# Altium schematic symbol library STMicrocontroller 8.SchLib: 18 symbols
Pins are listed as number, name and electrical type; pins without a type are passive.

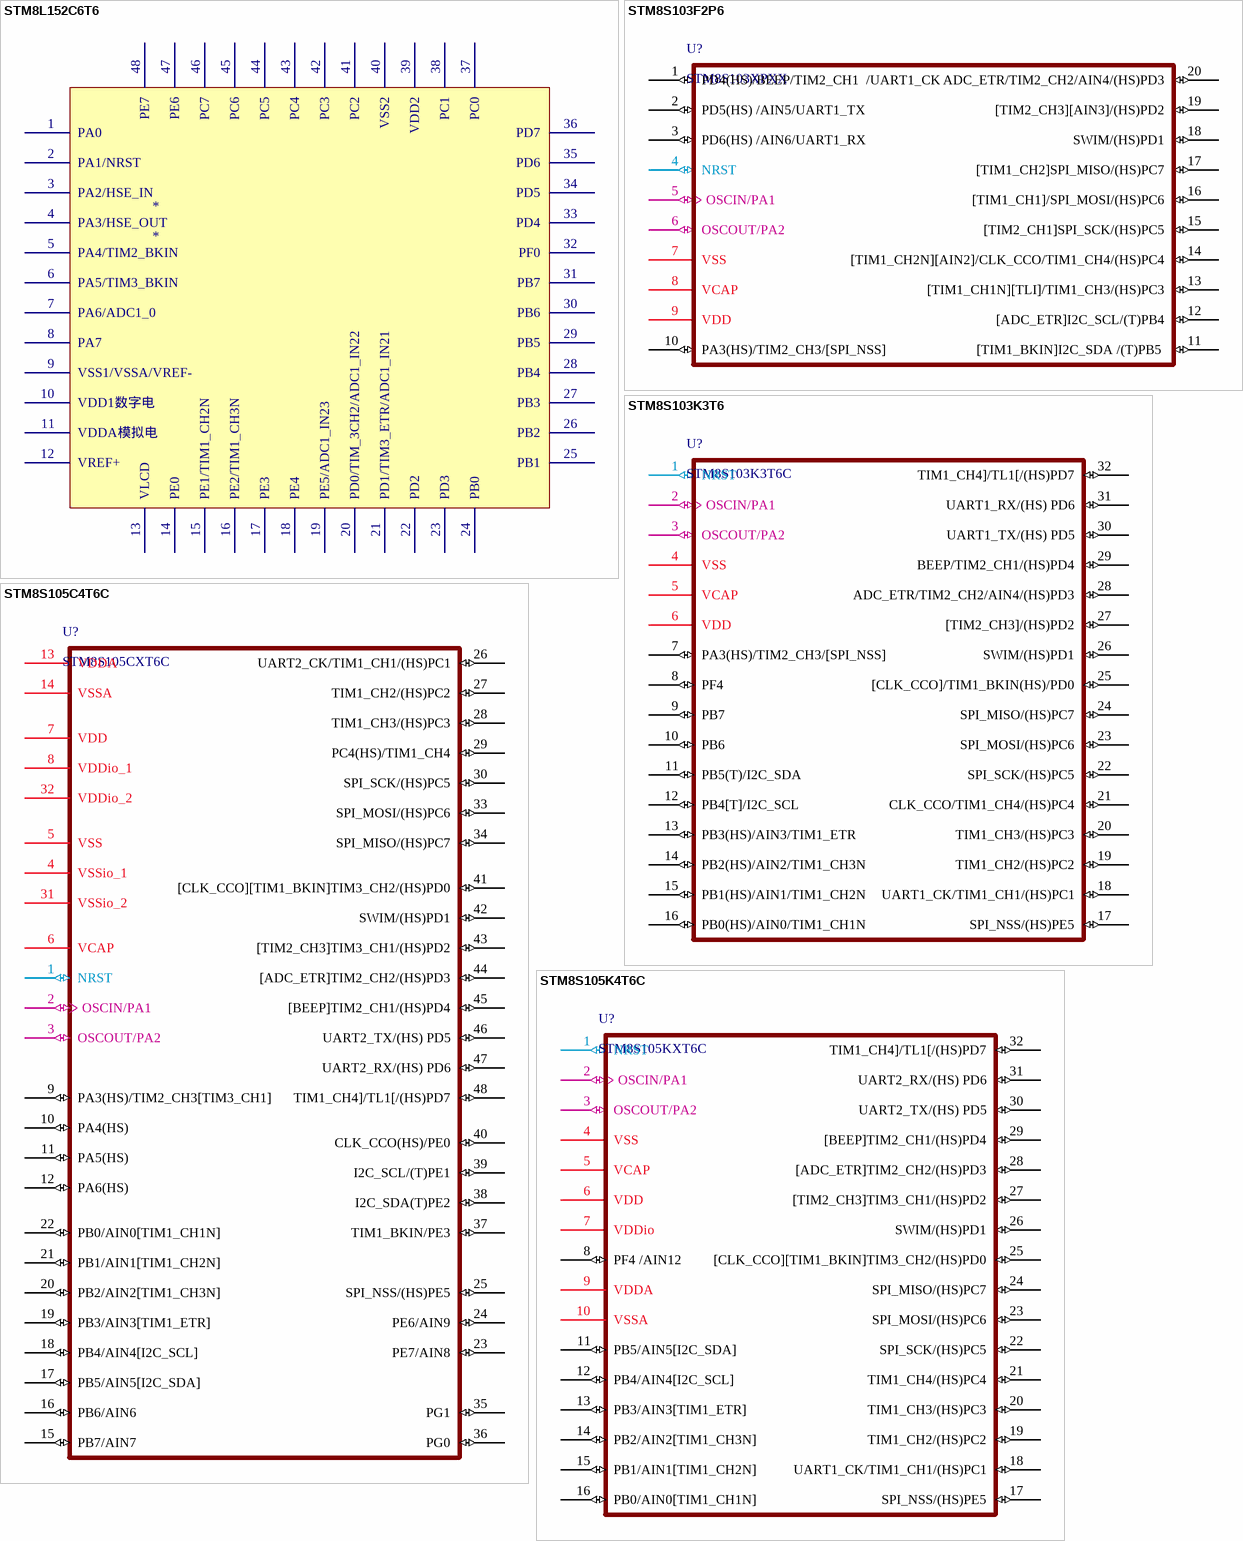
[diagram p0: symbols STM8L152C6T6 to STM8S105K4T6C]

## STM8L152C6T6
designator *
footprint LQFP48
pins: 1 PA0 (power), 2 PA1/NRST (power), 3 PA2/HSE_IN (power), 4 PA3/HSE_OUT (power), 5 PA4/TIM2_BKIN (power), 6 PA5/TIM3_BKIN (power), 7 PA6/ADC1_0 (power), 8 PA7 (power), 9 VSS1/VSSA/VREF- (power), 10 VDD1数字电 (power), 11 VDDA模拟电 (power), 12 VREF+ (power), 13 VLCD (power), 14 PE0 (power), 15 PE1/TIM1_CH2N (power), 16 PE2/TIM1_CH3N (power), 17 PE3 (power), 18 PE4 (power), 19 PE5/ADC1_IN23 (power), 20 PD0/TIM_3CH2/ADC1_IN22 (power), 21 PD1/TIM3_ETR/ADC1_IN21 (power), 22 PD2 (power), 23 PD3 (power), 24 PB0 (power), 25 PB1 (power), 26 PB2 (power), 27 PB3 (power), 28 PB4 (power), 29 PB5 (power), 30 PB6 (power), 31 PB7 (power), 32 PF0 (power), 33 PD4 (power), 34 PD5 (power), 35 PD6 (power), 36 PD7 (power), 37 PC0 (power), 38 PC1 (power), 39 VDD2 (power), 40 VSS2 (power), 41 PC2 (power), 42 PC3 (power), 43 PC4 (power), 44 PC5 (power), 45 PC6 (power), 46 PC7 (power), 47 PE6 (power), 48 PE7 (power)

## STM8S103F2P6
designator U?, comment STM8S103XPXX
ST 8-bit  Microcontroller
footprint TSSOP20 (20-pin, 4.40 mm body, 0.65 mm pitch)
pins: 1 PD4(HS)/BEEP/TIM2_CH1  /UART1_CK (io), 2 PD5(HS) /AIN5/UART1_TX (io), 3 PD6(HS) /AIN6/UART1_RX (io), 4 NRST (io), 5 OSCIN/PA1 (io), 6 OSCOUT/PA2 (io), 7 VSS (power), 8 VCAP (power), 9 VDD (power), 10 PA3(HS)/TIM2_CH3/[SPI_NSS]   (io), 11 [TIM1_BKIN]I2C_SDA /(T)PB5  (io), 12 [ADC_ETR]I2C_SCL/(T)PB4 (io), 13 [TIM1_CH1N][TLI]/TIM1_CH3/(HS)PC3 (io), 14 [TIM1_CH2N][AIN2]/CLK_CCO/TIM1_CH4/(HS)PC4 (io), 15 [TIM2_CH1]SPI_SCK/(HS)PC5 (io), 16 [TIM1_CH1]/SPI_MOSI/(HS)PC6 (io), 17 [TIM1_CH2]SPI_MISO/(HS)PC7 (io), 18 SWIM/(HS)PD1 (io), 19 [TIM2_CH3][AIN3]/(HS)PD2 (io), 20 ADC_ETR/TIM2_CH2/AIN4/(HS)PD3 (io)

## STM8S103K3T6
designator U?, comment STM8S103K3T6C
ST 8-bit  Microcontroller
footprint TQFP32 (Thin QFP, 32-Leads, Body 7x7mm, Pitch 0.8mm, IPC Low Density)
pins: 1 NRST (io), 2 OSCIN/PA1 (io), 3 OSCOUT/PA2 (io), 4 VSS (power), 5 VCAP (power), 6 VDD (power), 7 PA3(HS)/TIM2_CH3/[SPI_NSS]   (io), 8 PF4  (io), 9 PB7 (io), 10 PB6 (io), 11 PB5(T)/I2C_SDA (io), 12 PB4[T]/I2C_SCL (io), 13 PB3(HS)/AIN3/TIM1_ETR (io), 14 PB2(HS)/AIN2/TIM1_CH3N (io), 15 PB1(HS)/AIN1/TIM1_CH2N (io), 16 PB0(HS)/AIN0/TIM1_CH1N (io), 17 SPI_NSS/(HS)PE5 (io), 18 UART1_CK/TIM1_CH1/(HS)PC1 (io), 19 TIM1_CH2/(HS)PC2 (io), 20 TIM1_CH3/(HS)PC3 (io), 21 CLK_CCO/TIM1_CH4/(HS)PC4 (io), 22 SPI_SCK/(HS)PC5 (io), 23 SPI_MOSI/(HS)PC6 (io), 24 SPI_MISO/(HS)PC7 (io), 25 [CLK_CCO]/TIM1_BKIN(HS)/PD0 (io), 26 SWIM/(HS)PD1 (io), 27 [TIM2_CH3]/(HS)PD2 (io), 28 ADC_ETR/TIM2_CH2/AIN4/(HS)PD3 (io), 29 BEEP/TIM2_CH1/(HS)PD4 (io), 30 UART1_TX/(HS) PD5 (io), 31 UART1_RX/(HS) PD6 (io), 32 TIM1_CH4]/TL1[/(HS)PD7 (io)

## STM8S105C4T6C
designator U?, comment STM8S105CXT6C
ST 8-bit  Microcontroller
footprint LQFP48
pins: 1 NRST (io), 2 OSCIN/PA1 (io), 3 OSCOUT/PA2 (io), 4 VSSio_1 (power), 5 VSS (power), 6 VCAP (power), 7 VDD (power), 8 VDDio_1 (power), 9 PA3(HS)/TIM2_CH3[TIM3_CH1] (io), 10 PA4(HS) (io), 11 PA5(HS) (io), 12 PA6(HS) (io), 13 VDDA (power), 14 VSSA (power), 15 PB7/AIN7 (io), 16 PB6/AIN6 (io), 17 PB5/AIN5[I2C_SDA] (io), 18 PB4/AIN4[I2C_SCL] (io), 19 PB3/AIN3[TIM1_ETR] (io), 20 PB2/AIN2[TIM1_CH3N] (io), 21 PB1/AIN1[TIM1_CH2N] (io), 22 PB0/AIN0[TIM1_CH1N] (io), 23 PE7/AIN8 (io), 24 PE6/AIN9 (io), 25 SPI_NSS/(HS)PE5 (io), 26 UART2_CK/TIM1_CH1/(HS)PC1 (io), 27 TIM1_CH2/(HS)PC2 (io), 28 TIM1_CH3/(HS)PC3 (io), 29 PC4(HS)/TIM1_CH4 (io), 30 SPI_SCK/(HS)PC5 (io), 31 VSSio_2 (power), 32 VDDio_2 (power), 33 SPI_MOSI/(HS)PC6 (io), 34 SPI_MISO/(HS)PC7 (io), 35 PG1 (io), 36 PG0 (io), 37 TIM1_BKIN/PE3 (io), 38 I2C_SDA(T)PE2 (io), 39 I2C_SCL/(T)PE1 (io), 40 CLK_CCO(HS)/PE0 (io), 41 [CLK_CCO][TIM1_BKIN]TIM3_CH2/(HS)PD0 (io), 42 SWIM/(HS)PD1 (io), 43 [TIM2_CH3]TIM3_CH1/(HS)PD2 (io), 44 [ADC_ETR]TIM2_CH2/(HS)PD3 (io), 45 [BEEP]TIM2_CH1/(HS)PD4 (io), 46 UART2_TX/(HS) PD5 (io), 47 UART2_RX/(HS) PD6 (io), 48 TIM1_CH4]/TL1[/(HS)PD7 (io)
1 alternate drawing of the same symbol

## STM8S105K4T6C
designator U?, comment STM8S105KXT6C
ST 8-bit  Microcontroller
footprint TQFP32 (Thin QFP, 32-Leads, Body 7x7mm, Pitch 0.8mm, IPC Low Density)
pins: 1 NRST (io), 2 OSCIN/PA1 (io), 3 OSCOUT/PA2 (io), 4 VSS (power), 5 VCAP (power), 6 VDD (power), 7 VDDio (power), 8 PF4 /AIN12 (io), 9 VDDA (power), 10 VSSA (power), 11 PB5/AIN5[I2C_SDA] (io), 12 PB4/AIN4[I2C_SCL] (io), 13 PB3/AIN3[TIM1_ETR] (io), 14 PB2/AIN2[TIM1_CH3N] (io), 15 PB1/AIN1[TIM1_CH2N] (io), 16 PB0/AIN0[TIM1_CH1N] (io), 17 SPI_NSS/(HS)PE5 (io), 18 UART1_CK/TIM1_CH1/(HS)PC1 (io), 19 TIM1_CH2/(HS)PC2 (io), 20 TIM1_CH3/(HS)PC3 (io), 21 TIM1_CH4/(HS)PC4 (io), 22 SPI_SCK/(HS)PC5 (io), 23 SPI_MOSI/(HS)PC6 (io), 24 SPI_MISO/(HS)PC7 (io), 25 [CLK_CCO][TIM1_BKIN]TIM3_CH2/(HS)PD0 (io), 26 SWIM/(HS)PD1 (io), 27 [TIM2_CH3]TIM3_CH1/(HS)PD2 (io), 28 [ADC_ETR]TIM2_CH2/(HS)PD3 (io), 29 [BEEP]TIM2_CH1/(HS)PD4 (io), 30 UART2_TX/(HS) PD5 (io), 31 UART2_RX/(HS) PD6 (io), 32 TIM1_CH4]/TL1[/(HS)PD7 (io)

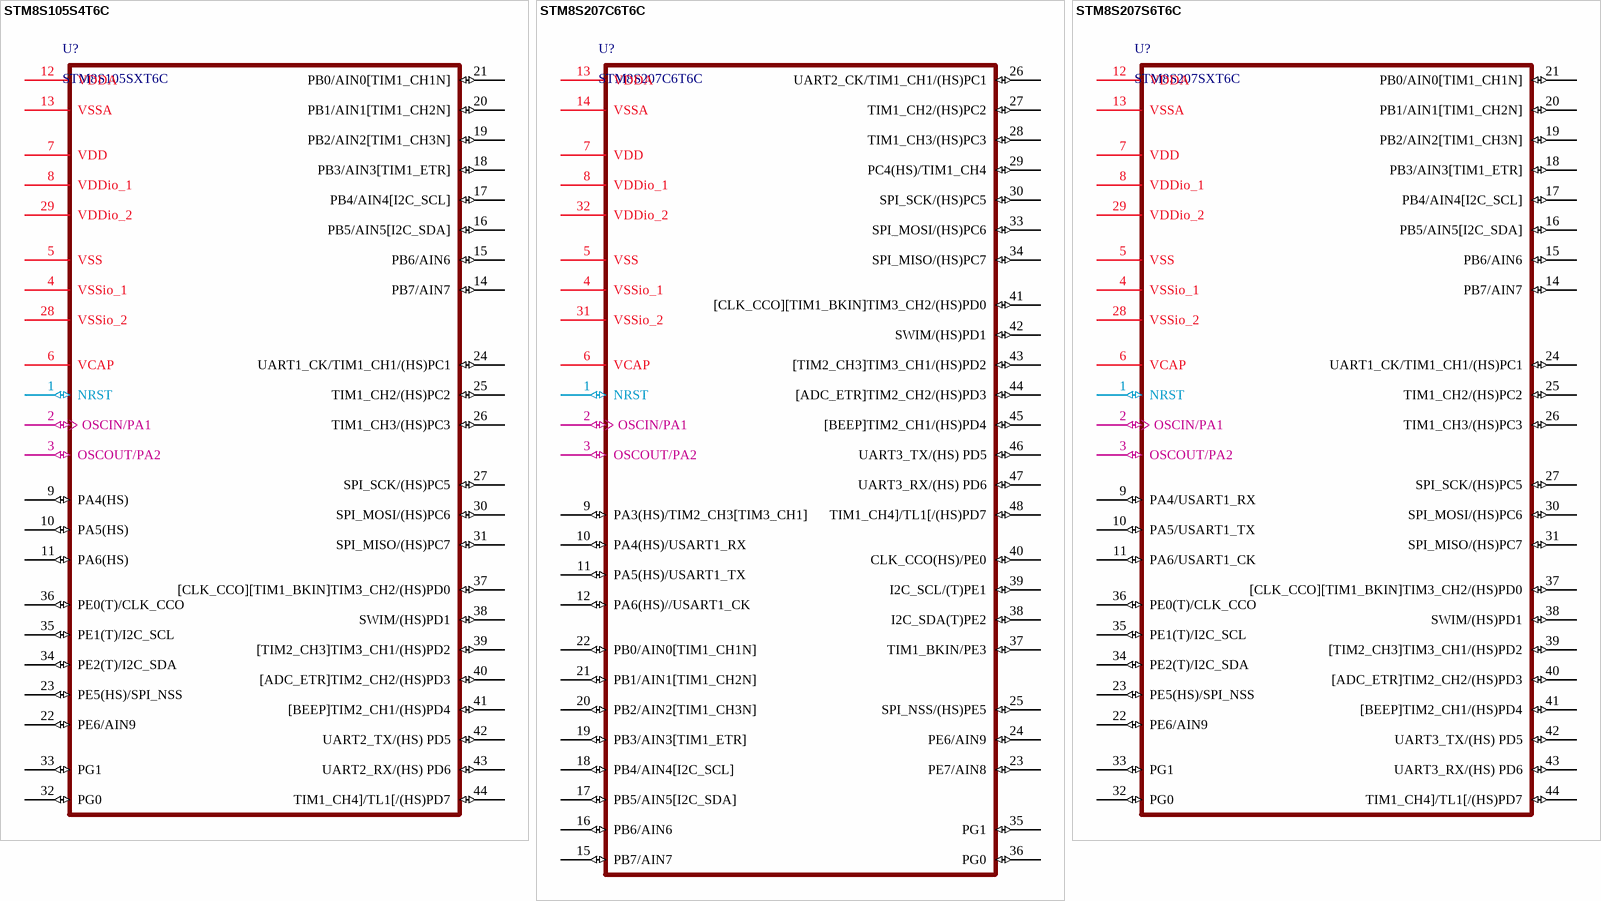
[diagram p1: symbols STM8S105S4T6C to STM8S207S6T6C]

## STM8S105S4T6C
designator U?, comment STM8S105SXT6C
ST 8-bit  Microcontroller
footprint TQFP44 (Thin QFP, 44-Leads, Body 10x10mm, Pitch 0.8mm, IPC Low Density)
pins: 1 NRST (io), 2 OSCIN/PA1 (io), 3 OSCOUT/PA2 (io), 4 VSSio_1 (power), 5 VSS (power), 6 VCAP (power), 7 VDD (power), 8 VDDio_1 (power), 9 PA4(HS) (io), 10 PA5(HS) (io), 11 PA6(HS) (io), 12 VDDA (power), 13 VSSA (power), 14 PB7/AIN7 (io), 15 PB6/AIN6 (io), 16 PB5/AIN5[I2C_SDA] (io), 17 PB4/AIN4[I2C_SCL] (io), 18 PB3/AIN3[TIM1_ETR] (io), 19 PB2/AIN2[TIM1_CH3N] (io), 20 PB1/AIN1[TIM1_CH2N] (io), 21 PB0/AIN0[TIM1_CH1N] (io), 22 PE6/AIN9 (io), 23 PE5(HS)/SPI_NSS (io), 24 UART1_CK/TIM1_CH1/(HS)PC1 (io), 25 TIM1_CH2/(HS)PC2 (io), 26 TIM1_CH3/(HS)PC3 (io), 27 SPI_SCK/(HS)PC5 (io), 28 VSSio_2 (power), 29 VDDio_2 (power), 30 SPI_MOSI/(HS)PC6 (io), 31 SPI_MISO/(HS)PC7 (io), 32 PG0 (io), 33 PG1 (io), 34 PE2(T)/I2C_SDA (io), 35 PE1(T)/I2C_SCL (io), 36 PE0(T)/CLK_CCO (io), 37 [CLK_CCO][TIM1_BKIN]TIM3_CH2/(HS)PD0 (io), 38 SWIM/(HS)PD1 (io), 39 [TIM2_CH3]TIM3_CH1/(HS)PD2 (io), 40 [ADC_ETR]TIM2_CH2/(HS)PD3 (io), 41 [BEEP]TIM2_CH1/(HS)PD4 (io), 42 UART2_TX/(HS) PD5 (io), 43 UART2_RX/(HS) PD6 (io), 44 TIM1_CH4]/TL1[/(HS)PD7 (io)

## STM8S207C6T6C
designator U?
ST 8-bit  Microcontroller
footprint LQFP48
pins: 1 NRST (io), 2 OSCIN/PA1 (io), 3 OSCOUT/PA2 (io), 4 VSSio_1 (power), 5 VSS (power), 6 VCAP (power), 7 VDD (power), 8 VDDio_1 (power), 9 PA3(HS)/TIM2_CH3[TIM3_CH1] (io), 10 PA4(HS)/USART1_RX (io), 11 PA5(HS)/USART1_TX (io), 12 PA6(HS)//USART1_CK (io), 13 VDDA (power), 14 VSSA (power), 15 PB7/AIN7 (io), 16 PB6/AIN6 (io), 17 PB5/AIN5[I2C_SDA] (io), 18 PB4/AIN4[I2C_SCL] (io), 19 PB3/AIN3[TIM1_ETR] (io), 20 PB2/AIN2[TIM1_CH3N] (io), 21 PB1/AIN1[TIM1_CH2N] (io), 22 PB0/AIN0[TIM1_CH1N] (io), 23 PE7/AIN8 (io), 24 PE6/AIN9 (io), 25 SPI_NSS/(HS)PE5 (io), 26 UART2_CK/TIM1_CH1/(HS)PC1 (io), 27 TIM1_CH2/(HS)PC2 (io), 28 TIM1_CH3/(HS)PC3 (io), 29 PC4(HS)/TIM1_CH4 (io), 30 SPI_SCK/(HS)PC5 (io), 31 VSSio_2 (power), 32 VDDio_2 (power), 33 SPI_MOSI/(HS)PC6 (io), 34 SPI_MISO/(HS)PC7 (io), 35 PG1 (io), 36 PG0 (io), 37 TIM1_BKIN/PE3 (io), 38 I2C_SDA(T)PE2 (io), 39 I2C_SCL/(T)PE1 (io), 40 CLK_CCO(HS)/PE0 (io), 41 [CLK_CCO][TIM1_BKIN]TIM3_CH2/(HS)PD0 (io), 42 SWIM/(HS)PD1 (io), 43 [TIM2_CH3]TIM3_CH1/(HS)PD2 (io), 44 [ADC_ETR]TIM2_CH2/(HS)PD3 (io), 45 [BEEP]TIM2_CH1/(HS)PD4 (io), 46 UART3_TX/(HS) PD5 (io), 47 UART3_RX/(HS) PD6 (io), 48 TIM1_CH4]/TL1[/(HS)PD7 (io)

## STM8S207S6T6C
designator U?, comment STM8S207SXT6C
ST 8-bit  Microcontroller
footprint TQFP44 (Thin QFP, 44-Leads, Body 10x10mm, Pitch 0.8mm, IPC Low Density)
pins: 1 NRST (io), 2 OSCIN/PA1 (io), 3 OSCOUT/PA2 (io), 4 VSSio_1 (power), 5 VSS (power), 6 VCAP (power), 7 VDD (power), 8 VDDio_1 (power), 9 PA4/USART1_RX (io), 10 PA5/USART1_TX (io), 11 PA6/USART1_CK (io), 12 VDDA (power), 13 VSSA (power), 14 PB7/AIN7 (io), 15 PB6/AIN6 (io), 16 PB5/AIN5[I2C_SDA] (io), 17 PB4/AIN4[I2C_SCL] (io), 18 PB3/AIN3[TIM1_ETR] (io), 19 PB2/AIN2[TIM1_CH3N] (io), 20 PB1/AIN1[TIM1_CH2N] (io), 21 PB0/AIN0[TIM1_CH1N] (io), 22 PE6/AIN9 (io), 23 PE5(HS)/SPI_NSS (io), 24 UART1_CK/TIM1_CH1/(HS)PC1 (io), 25 TIM1_CH2/(HS)PC2 (io), 26 TIM1_CH3/(HS)PC3 (io), 27 SPI_SCK/(HS)PC5 (io), 28 VSSio_2 (power), 29 VDDio_2 (power), 30 SPI_MOSI/(HS)PC6 (io), 31 SPI_MISO/(HS)PC7 (io), 32 PG0 (io), 33 PG1 (io), 34 PE2(T)/I2C_SDA (io), 35 PE1(T)/I2C_SCL (io), 36 PE0(T)/CLK_CCO (io), 37 [CLK_CCO][TIM1_BKIN]TIM3_CH2/(HS)PD0 (io), 38 SWIM/(HS)PD1 (io), 39 [TIM2_CH3]TIM3_CH1/(HS)PD2 (io), 40 [ADC_ETR]TIM2_CH2/(HS)PD3 (io), 41 [BEEP]TIM2_CH1/(HS)PD4 (io), 42 UART3_TX/(HS) PD5 (io), 43 UART3_RX/(HS) PD6 (io), 44 TIM1_CH4]/TL1[/(HS)PD7 (io)

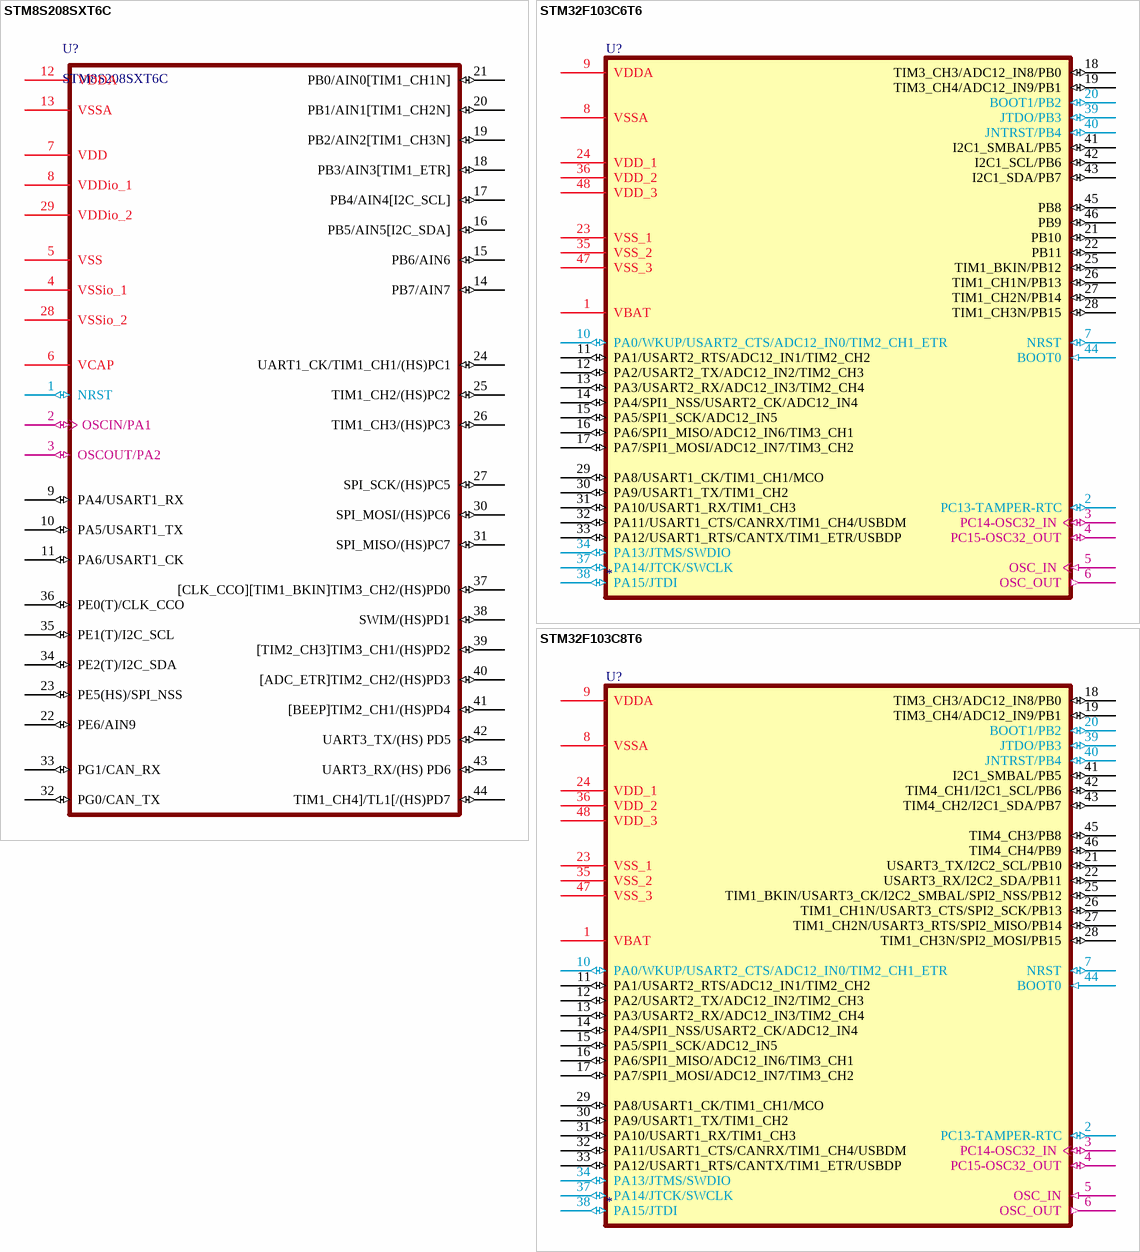
[diagram p2: symbols STM8S208SXT6C to STM32F103C8T6]

## STM8S208SXT6C
designator U?
ST 8-bit  Microcontroller
footprint TQFP44 (Thin QFP, 44-Leads, Body 10x10mm, Pitch 0.8mm, IPC Low Density)
pins: 1 NRST (io), 2 OSCIN/PA1 (io), 3 OSCOUT/PA2 (io), 4 VSSio_1 (power), 5 VSS (power), 6 VCAP (power), 7 VDD (power), 8 VDDio_1 (power), 9 PA4/USART1_RX (io), 10 PA5/USART1_TX (io), 11 PA6/USART1_CK (io), 12 VDDA (power), 13 VSSA (power), 14 PB7/AIN7 (io), 15 PB6/AIN6 (io), 16 PB5/AIN5[I2C_SDA] (io), 17 PB4/AIN4[I2C_SCL] (io), 18 PB3/AIN3[TIM1_ETR] (io), 19 PB2/AIN2[TIM1_CH3N] (io), 20 PB1/AIN1[TIM1_CH2N] (io), 21 PB0/AIN0[TIM1_CH1N] (io), 22 PE6/AIN9 (io), 23 PE5(HS)/SPI_NSS (io), 24 UART1_CK/TIM1_CH1/(HS)PC1 (io), 25 TIM1_CH2/(HS)PC2 (io), 26 TIM1_CH3/(HS)PC3 (io), 27 SPI_SCK/(HS)PC5 (io), 28 VSSio_2 (power), 29 VDDio_2 (power), 30 SPI_MOSI/(HS)PC6 (io), 31 SPI_MISO/(HS)PC7 (io), 32 PG0/CAN_TX (io), 33 PG1/CAN_RX (io), 34 PE2(T)/I2C_SDA (io), 35 PE1(T)/I2C_SCL (io), 36 PE0(T)/CLK_CCO (io), 37 [CLK_CCO][TIM1_BKIN]TIM3_CH2/(HS)PD0 (io), 38 SWIM/(HS)PD1 (io), 39 [TIM2_CH3]TIM3_CH1/(HS)PD2 (io), 40 [ADC_ETR]TIM2_CH2/(HS)PD3 (io), 41 [BEEP]TIM2_CH1/(HS)PD4 (io), 42 UART3_TX/(HS) PD5 (io), 43 UART3_RX/(HS) PD6 (io), 44 TIM1_CH4]/TL1[/(HS)PD7 (io)

## STM32F103C6T6
designator U?
STM32 ARM-based 32-bit MCU with 32 Kbytes Flash, 48-pin LQFP, Industrial Temperature; Published: *; DatasheetVersion: *; PackageVersion: *; PackageReference: *; Publisher: *; PackageDescription: *; ComponentLink1Description: *; ComponentLink1URL: *; ComponentLink2Description: *; ComponentLink2URL: *
footprint LQFP48
pins: 1 VBAT (power), 2 PC13-TAMPER-RTC (io), 3 PC14-OSC32_IN (io), 4 PC15-OSC32_OUT (io), 5 OSC_IN (in), 6 OSC_OUT (out), 7 NRST (io), 8 VSSA (power), 9 VDDA (power), 10 PA0/WKUP/USART2_CTS/ADC12_IN0/TIM2_CH1_ETR (io), 11 PA1/USART2_RTS/ADC12_IN1/TIM2_CH2 (io), 12 PA2/USART2_TX/ADC12_IN2/TIM2_CH3 (io), 13 PA3/USART2_RX/ADC12_IN3/TIM2_CH4 (io), 14 PA4/SPI1_NSS/USART2_CK/ADC12_IN4 (io), 15 PA5/SPI1_SCK/ADC12_IN5 (io), 16 PA6/SPI1_MISO/ADC12_IN6/TIM3_CH1 (io), 17 PA7/SPI1_MOSI/ADC12_IN7/TIM3_CH2 (io), 18 TIM3_CH3/ADC12_IN8/PB0 (io), 19 TIM3_CH4/ADC12_IN9/PB1 (io), 20 BOOT1/PB2 (io), 21 PB10 (io), 22 PB11 (io), 23 VSS_1 (power), 24 VDD_1 (power), 25 TIM1_BKIN/PB12 (io), 26 TIM1_CH1N/PB13 (io), 27 TIM1_CH2N/PB14 (io), 28 TIM1_CH3N/PB15 (io), 29 PA8/USART1_CK/TIM1_CH1/MCO (io), 30 PA9/USART1_TX/TIM1_CH2 (io), 31 PA10/USART1_RX/TIM1_CH3 (io), 32 PA11/USART1_CTS/CANRX/TIM1_CH4/USBDM (io), 33 PA12/USART1_RTS/CANTX/TIM1_ETR/USBDP (io), 34 PA13/JTMS/SWDIO (io), 35 VSS_2 (power), 36 VDD_2 (power), 37 PA14/JTCK/SWCLK (io), 38 PA15/JTDI (io), 39 JTDO/PB3 (io), 40 JNTRST/PB4 (io), 41 I2C1_SMBAL/PB5 (io), 42 I2C1_SCL/PB6 (io), 43 I2C1_SDA/PB7 (io), 44 BOOT0 (in), 45 PB8 (io), 46 PB9 (io), 47 VSS_3 (power), 48 VDD_3 (power)
2 alternate drawings of the same symbol

## STM32F103C8T6
designator U?
STM32 ARM-based 32-bit MCU with 64 Kbytes Flash, 48-pin LQFP, Industrial Temperature; Published: *; DatasheetVersion: *; PackageVersion: *; PackageReference: *; Publisher: *; PackageDescription: *; ComponentLink1Description: *; ComponentLink1URL: *; ComponentLink2Description: *; ComponentLink2URL: *
footprint LQFP48
pins: 1 VBAT (power), 2 PC13-TAMPER-RTC (io), 3 PC14-OSC32_IN (io), 4 PC15-OSC32_OUT (io), 5 OSC_IN (in), 6 OSC_OUT (out), 7 NRST (io), 8 VSSA (power), 9 VDDA (power), 10 PA0/WKUP/USART2_CTS/ADC12_IN0/TIM2_CH1_ETR (io), 11 PA1/USART2_RTS/ADC12_IN1/TIM2_CH2 (io), 12 PA2/USART2_TX/ADC12_IN2/TIM2_CH3 (io), 13 PA3/USART2_RX/ADC12_IN3/TIM2_CH4 (io), 14 PA4/SPI1_NSS/USART2_CK/ADC12_IN4 (io), 15 PA5/SPI1_SCK/ADC12_IN5 (io), 16 PA6/SPI1_MISO/ADC12_IN6/TIM3_CH1 (io), 17 PA7/SPI1_MOSI/ADC12_IN7/TIM3_CH2 (io), 18 TIM3_CH3/ADC12_IN8/PB0 (io), 19 TIM3_CH4/ADC12_IN9/PB1 (io), 20 BOOT1/PB2 (io), 21 USART3_TX/I2C2_SCL/PB10 (io), 22 USART3_RX/I2C2_SDA/PB11 (io), 23 VSS_1 (power), 24 VDD_1 (power), 25 TIM1_BKIN/USART3_CK/I2C2_SMBAL/SPI2_NSS/PB12 (io), 26 TIM1_CH1N/USART3_CTS/SPI2_SCK/PB13 (io), 27 TIM1_CH2N/USART3_RTS/SPI2_MISO/PB14 (io), 28 TIM1_CH3N/SPI2_MOSI/PB15 (io), 29 PA8/USART1_CK/TIM1_CH1/MCO (io), 30 PA9/USART1_TX/TIM1_CH2 (io), 31 PA10/USART1_RX/TIM1_CH3 (io), 32 PA11/USART1_CTS/CANRX/TIM1_CH4/USBDM (io), 33 PA12/USART1_RTS/CANTX/TIM1_ETR/USBDP (io), 34 PA13/JTMS/SWDIO (io), 35 VSS_2 (power), 36 VDD_2 (power), 37 PA14/JTCK/SWCLK (io), 38 PA15/JTDI (io), 39 JTDO/PB3 (io), 40 JNTRST/PB4 (io), 41 I2C1_SMBAL/PB5 (io), 42 TIM4_CH1/I2C1_SCL/PB6 (io), 43 TIM4_CH2/I2C1_SDA/PB7 (io), 44 BOOT0 (in), 45 TIM4_CH3/PB8 (io), 46 TIM4_CH4/PB9 (io), 47 VSS_3 (power), 48 VDD_3 (power)
2 alternate drawings of the same symbol

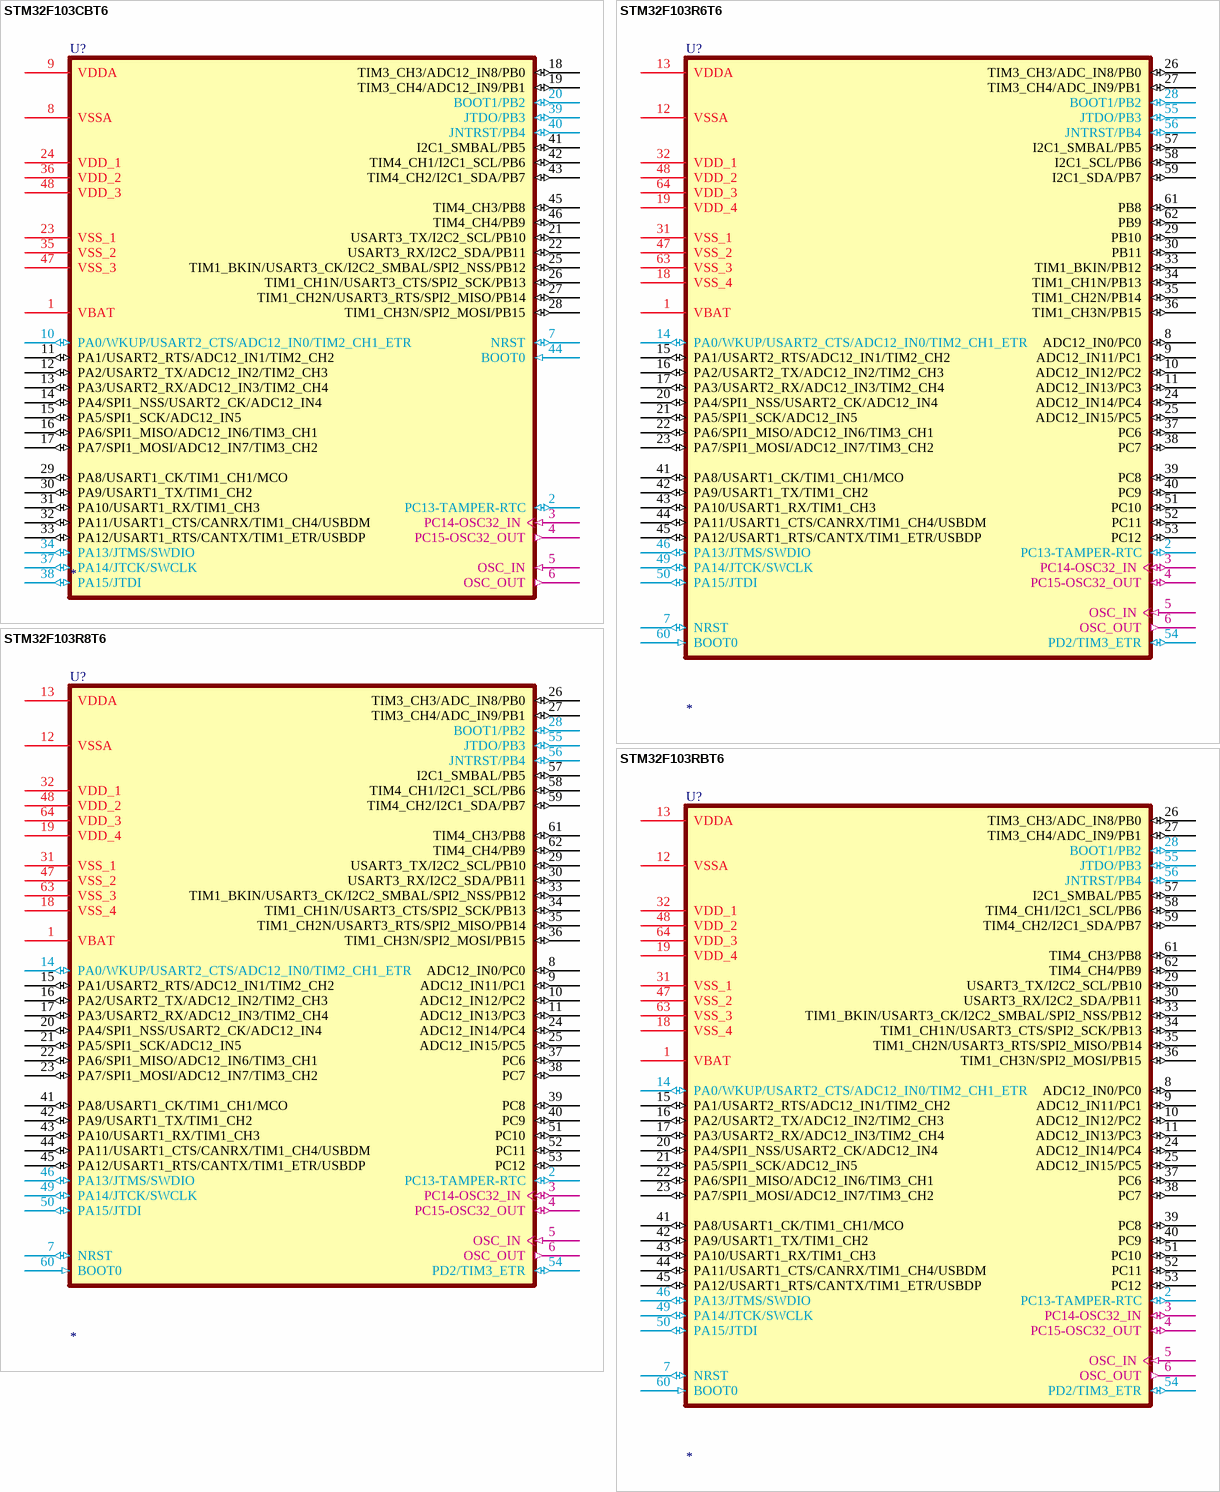
[diagram p3: symbols STM32F103CBT6 to STM32F103RBT6]

## STM32F103CBT6
designator U?
STM32 ARM-based 32-bit MCU with 128 Kbytes Flash, 48-pin LQFP, Industrial Temperature; Published: *; DatasheetVersion: *; PackageVersion: *; PackageReference: *; Publisher: *; PackageDescription: *; ComponentLink1Description: *; ComponentLink1URL: *; ComponentLink2Description: *; ComponentLink2URL: *
footprint LQFP48
pins: 1 VBAT (power), 2 PC13-TAMPER-RTC (io), 3 PC14-OSC32_IN (in), 4 PC15-OSC32_OUT (out), 5 OSC_IN (in), 6 OSC_OUT (out), 7 NRST (io), 8 VSSA (power), 9 VDDA (power), 10 PA0/WKUP/USART2_CTS/ADC12_IN0/TIM2_CH1_ETR (io), 11 PA1/USART2_RTS/ADC12_IN1/TIM2_CH2 (io), 12 PA2/USART2_TX/ADC12_IN2/TIM2_CH3 (io), 13 PA3/USART2_RX/ADC12_IN3/TIM2_CH4 (io), 14 PA4/SPI1_NSS/USART2_CK/ADC12_IN4 (io), 15 PA5/SPI1_SCK/ADC12_IN5 (io), 16 PA6/SPI1_MISO/ADC12_IN6/TIM3_CH1 (io), 17 PA7/SPI1_MOSI/ADC12_IN7/TIM3_CH2 (io), 18 TIM3_CH3/ADC12_IN8/PB0 (io), 19 TIM3_CH4/ADC12_IN9/PB1 (io), 20 BOOT1/PB2 (io), 21 USART3_TX/I2C2_SCL/PB10 (io), 22 USART3_RX/I2C2_SDA/PB11 (io), 23 VSS_1 (power), 24 VDD_1 (power), 25 TIM1_BKIN/USART3_CK/I2C2_SMBAL/SPI2_NSS/PB12 (io), 26 TIM1_CH1N/USART3_CTS/SPI2_SCK/PB13 (io), 27 TIM1_CH2N/USART3_RTS/SPI2_MISO/PB14 (io), 28 TIM1_CH3N/SPI2_MOSI/PB15 (io), 29 PA8/USART1_CK/TIM1_CH1/MCO (io), 30 PA9/USART1_TX/TIM1_CH2 (io), 31 PA10/USART1_RX/TIM1_CH3 (io), 32 PA11/USART1_CTS/CANRX/TIM1_CH4/USBDM (io), 33 PA12/USART1_RTS/CANTX/TIM1_ETR/USBDP (io), 34 PA13/JTMS/SWDIO (io), 35 VSS_2 (power), 36 VDD_2 (power), 37 PA14/JTCK/SWCLK (io), 38 PA15/JTDI (io), 39 JTDO/PB3 (io), 40 JNTRST/PB4 (io), 41 I2C1_SMBAL/PB5 (io), 42 TIM4_CH1/I2C1_SCL/PB6 (io), 43 TIM4_CH2/I2C1_SDA/PB7 (io), 44 BOOT0 (in), 45 TIM4_CH3/PB8 (io), 46 TIM4_CH4/PB9 (io), 47 VSS_3 (power), 48 VDD_3 (power)
2 alternate drawings of the same symbol

## STM32F103R6T6
designator U?
STM32 ARM-based 32-bit MCU with 32 Kbytes Flash, 64-pin LQFP, Industrial Temperature; Published: *; DatasheetVersion: *; PackageVersion: *; PackageReference: *; Publisher: *; PackageDescription: *; ComponentLink1Description: *; ComponentLink1URL: *; ComponentLink2Description: *; ComponentLink2URL: *
footprint LQFP64
pins: 1 VBAT (power), 2 PC13-TAMPER-RTC (io), 3 PC14-OSC32_IN (io), 4 PC15-OSC32_OUT (io), 5 OSC_IN (in), 6 OSC_OUT (out), 7 NRST (io), 8 ADC12_IN0/PC0 (io), 9 ADC12_IN11/PC1 (io), 10 ADC12_IN12/PC2 (io), 11 ADC12_IN13/PC3 (io), 12 VSSA (power), 13 VDDA (power), 14 PA0/WKUP/USART2_CTS/ADC12_IN0/TIM2_CH1_ETR (io), 15 PA1/USART2_RTS/ADC12_IN1/TIM2_CH2 (io), 16 PA2/USART2_TX/ADC12_IN2/TIM2_CH3 (io), 17 PA3/USART2_RX/ADC12_IN3/TIM2_CH4 (io), 18 VSS_4 (power), 19 VDD_4 (power), 20 PA4/SPI1_NSS/USART2_CK/ADC12_IN4 (io), 21 PA5/SPI1_SCK/ADC12_IN5 (io), 22 PA6/SPI1_MISO/ADC12_IN6/TIM3_CH1 (io), 23 PA7/SPI1_MOSI/ADC12_IN7/TIM3_CH2 (io), 24 ADC12_IN14/PC4 (io), 25 ADC12_IN15/PC5 (io), 26 TIM3_CH3/ADC_IN8/PB0 (io), 27 TIM3_CH4/ADC_IN9/PB1 (io), 28 BOOT1/PB2 (io), 29 PB10 (io), 30 PB11 (io), 31 VSS_1 (power), 32 VDD_1 (power), 33 TIM1_BKIN/PB12 (io), 34 TIM1_CH1N/PB13 (io), 35 TIM1_CH2N/PB14 (io), 36 TIM1_CH3N/PB15 (io), 37 PC6 (io), 38 PC7 (io), 39 PC8 (io), 40 PC9 (io), 41 PA8/USART1_CK/TIM1_CH1/MCO (io), 42 PA9/USART1_TX/TIM1_CH2 (io), 43 PA10/USART1_RX/TIM1_CH3 (io), 44 PA11/USART1_CTS/CANRX/TIM1_CH4/USBDM (io), 45 PA12/USART1_RTS/CANTX/TIM1_ETR/USBDP (io), 46 PA13/JTMS/SWDIO (io), 47 VSS_2 (power), 48 VDD_2 (power), 49 PA14/JTCK/SWCLK (io), 50 PA15/JTDI (io), 51 PC10 (io), 52 PC11 (io), 53 PC12 (io), 54 PD2/TIM3_ETR (io), 55 JTDO/PB3 (io), 56 JNTRST/PB4 (io), 57 I2C1_SMBAL/PB5 (io), 58 I2C1_SCL/PB6 (io), 59 I2C1_SDA/PB7 (io), 60 BOOT0 (in), 61 PB8 (io), 62 PB9 (io), 63 VSS_3 (power), 64 VDD_3 (power)
2 alternate drawings of the same symbol

## STM32F103R8T6
designator U?
STM32 ARM-based 32-bit MCU with 64 Kbytes Flash, 64-pin LQFP, Industrial Temperature; Published: *; DatasheetVersion: *; PackageVersion: *; PackageReference: *; Publisher: *; PackageDescription: *; ComponentLink1Description: *; ComponentLink1URL: *; ComponentLink2Description: *; ComponentLink2URL: *
footprint LQFP64
pins: 1 VBAT (power), 2 PC13-TAMPER-RTC (io), 3 PC14-OSC32_IN (io), 4 PC15-OSC32_OUT (io), 5 OSC_IN (in), 6 OSC_OUT (out), 7 NRST (io), 8 ADC12_IN0/PC0 (io), 9 ADC12_IN11/PC1 (io), 10 ADC12_IN12/PC2 (io), 11 ADC12_IN13/PC3 (io), 12 VSSA (power), 13 VDDA (power), 14 PA0/WKUP/USART2_CTS/ADC12_IN0/TIM2_CH1_ETR (io), 15 PA1/USART2_RTS/ADC12_IN1/TIM2_CH2 (io), 16 PA2/USART2_TX/ADC12_IN2/TIM2_CH3 (io), 17 PA3/USART2_RX/ADC12_IN3/TIM2_CH4 (io), 18 VSS_4 (power), 19 VDD_4 (power), 20 PA4/SPI1_NSS/USART2_CK/ADC12_IN4 (io), 21 PA5/SPI1_SCK/ADC12_IN5 (io), 22 PA6/SPI1_MISO/ADC12_IN6/TIM3_CH1 (io), 23 PA7/SPI1_MOSI/ADC12_IN7/TIM3_CH2 (io), 24 ADC12_IN14/PC4 (io), 25 ADC12_IN15/PC5 (io), 26 TIM3_CH3/ADC_IN8/PB0 (io), 27 TIM3_CH4/ADC_IN9/PB1 (io), 28 BOOT1/PB2 (io), 29 USART3_TX/I2C2_SCL/PB10 (io), 30 USART3_RX/I2C2_SDA/PB11 (io), 31 VSS_1 (power), 32 VDD_1 (power), 33 TIM1_BKIN/USART3_CK/I2C2_SMBAL/SPI2_NSS/PB12 (io), 34 TIM1_CH1N/USART3_CTS/SPI2_SCK/PB13 (io), 35 TIM1_CH2N/USART3_RTS/SPI2_MISO/PB14 (io), 36 TIM1_CH3N/SPI2_MOSI/PB15 (io), 37 PC6 (io), 38 PC7 (io), 39 PC8 (io), 40 PC9 (io), 41 PA8/USART1_CK/TIM1_CH1/MCO (io), 42 PA9/USART1_TX/TIM1_CH2 (io), 43 PA10/USART1_RX/TIM1_CH3 (io), 44 PA11/USART1_CTS/CANRX/TIM1_CH4/USBDM (io), 45 PA12/USART1_RTS/CANTX/TIM1_ETR/USBDP (io), 46 PA13/JTMS/SWDIO (io), 47 VSS_2 (power), 48 VDD_2 (power), 49 PA14/JTCK/SWCLK (io), 50 PA15/JTDI (io), 51 PC10 (io), 52 PC11 (io), 53 PC12 (io), 54 PD2/TIM3_ETR (io), 55 JTDO/PB3 (io), 56 JNTRST/PB4 (io), 57 I2C1_SMBAL/PB5 (io), 58 TIM4_CH1/I2C1_SCL/PB6 (io), 59 TIM4_CH2/I2C1_SDA/PB7 (io), 60 BOOT0 (in), 61 TIM4_CH3/PB8 (io), 62 TIM4_CH4/PB9 (io), 63 VSS_3 (power), 64 VDD_3 (power)
2 alternate drawings of the same symbol

## STM32F103RBT6
designator U?
STM32 ARM-based 32-bit MCU with 128 Kbytes Flash, 64-pin LQFP, Industrial Temperature; Published: *; DatasheetVersion: *; PackageVersion: *; PackageReference: *; Publisher: *; PackageDescription: *; ComponentLink1Description: *; ComponentLink1URL: *; ComponentLink2Description: *; ComponentLink2URL: *
footprint LQFP64
pins: 1 VBAT (power), 2 PC13-TAMPER-RTC (io), 3 PC14-OSC32_IN (io), 4 PC15-OSC32_OUT (io), 5 OSC_IN (in), 6 OSC_OUT (out), 7 NRST (io), 8 ADC12_IN0/PC0 (io), 9 ADC12_IN11/PC1 (io), 10 ADC12_IN12/PC2 (io), 11 ADC12_IN13/PC3 (io), 12 VSSA (power), 13 VDDA (power), 14 PA0/WKUP/USART2_CTS/ADC12_IN0/TIM2_CH1_ETR (io), 15 PA1/USART2_RTS/ADC12_IN1/TIM2_CH2 (io), 16 PA2/USART2_TX/ADC12_IN2/TIM2_CH3 (io), 17 PA3/USART2_RX/ADC12_IN3/TIM2_CH4 (io), 18 VSS_4 (power), 19 VDD_4 (power), 20 PA4/SPI1_NSS/USART2_CK/ADC12_IN4 (io), 21 PA5/SPI1_SCK/ADC12_IN5 (io), 22 PA6/SPI1_MISO/ADC12_IN6/TIM3_CH1 (io), 23 PA7/SPI1_MOSI/ADC12_IN7/TIM3_CH2 (io), 24 ADC12_IN14/PC4 (io), 25 ADC12_IN15/PC5 (io), 26 TIM3_CH3/ADC_IN8/PB0 (io), 27 TIM3_CH4/ADC_IN9/PB1 (io), 28 BOOT1/PB2 (io), 29 USART3_TX/I2C2_SCL/PB10 (io), 30 USART3_RX/I2C2_SDA/PB11 (io), 31 VSS_1 (power), 32 VDD_1 (power), 33 TIM1_BKIN/USART3_CK/I2C2_SMBAL/SPI2_NSS/PB12 (io), 34 TIM1_CH1N/USART3_CTS/SPI2_SCK/PB13 (io), 35 TIM1_CH2N/USART3_RTS/SPI2_MISO/PB14 (io), 36 TIM1_CH3N/SPI2_MOSI/PB15 (io), 37 PC6 (io), 38 PC7 (io), 39 PC8 (io), 40 PC9 (io), 41 PA8/USART1_CK/TIM1_CH1/MCO (io), 42 PA9/USART1_TX/TIM1_CH2 (io), 43 PA10/USART1_RX/TIM1_CH3 (io), 44 PA11/USART1_CTS/CANRX/TIM1_CH4/USBDM (io), 45 PA12/USART1_RTS/CANTX/TIM1_ETR/USBDP (io), 46 PA13/JTMS/SWDIO (io), 47 VSS_2 (power), 48 VDD_2 (power), 49 PA14/JTCK/SWCLK (io), 50 PA15/JTDI (io), 51 PC10 (io), 52 PC11 (io), 53 PC12 (io), 54 PD2/TIM3_ETR (io), 55 JTDO/PB3 (io), 56 JNTRST/PB4 (io), 57 I2C1_SMBAL/PB5 (io), 58 TIM4_CH1/I2C1_SCL/PB6 (io), 59 TIM4_CH2/I2C1_SDA/PB7 (io), 60 BOOT0 (in), 61 TIM4_CH3/PB8 (io), 62 TIM4_CH4/PB9 (io), 63 VSS_3 (power), 64 VDD_3 (power)
2 alternate drawings of the same symbol

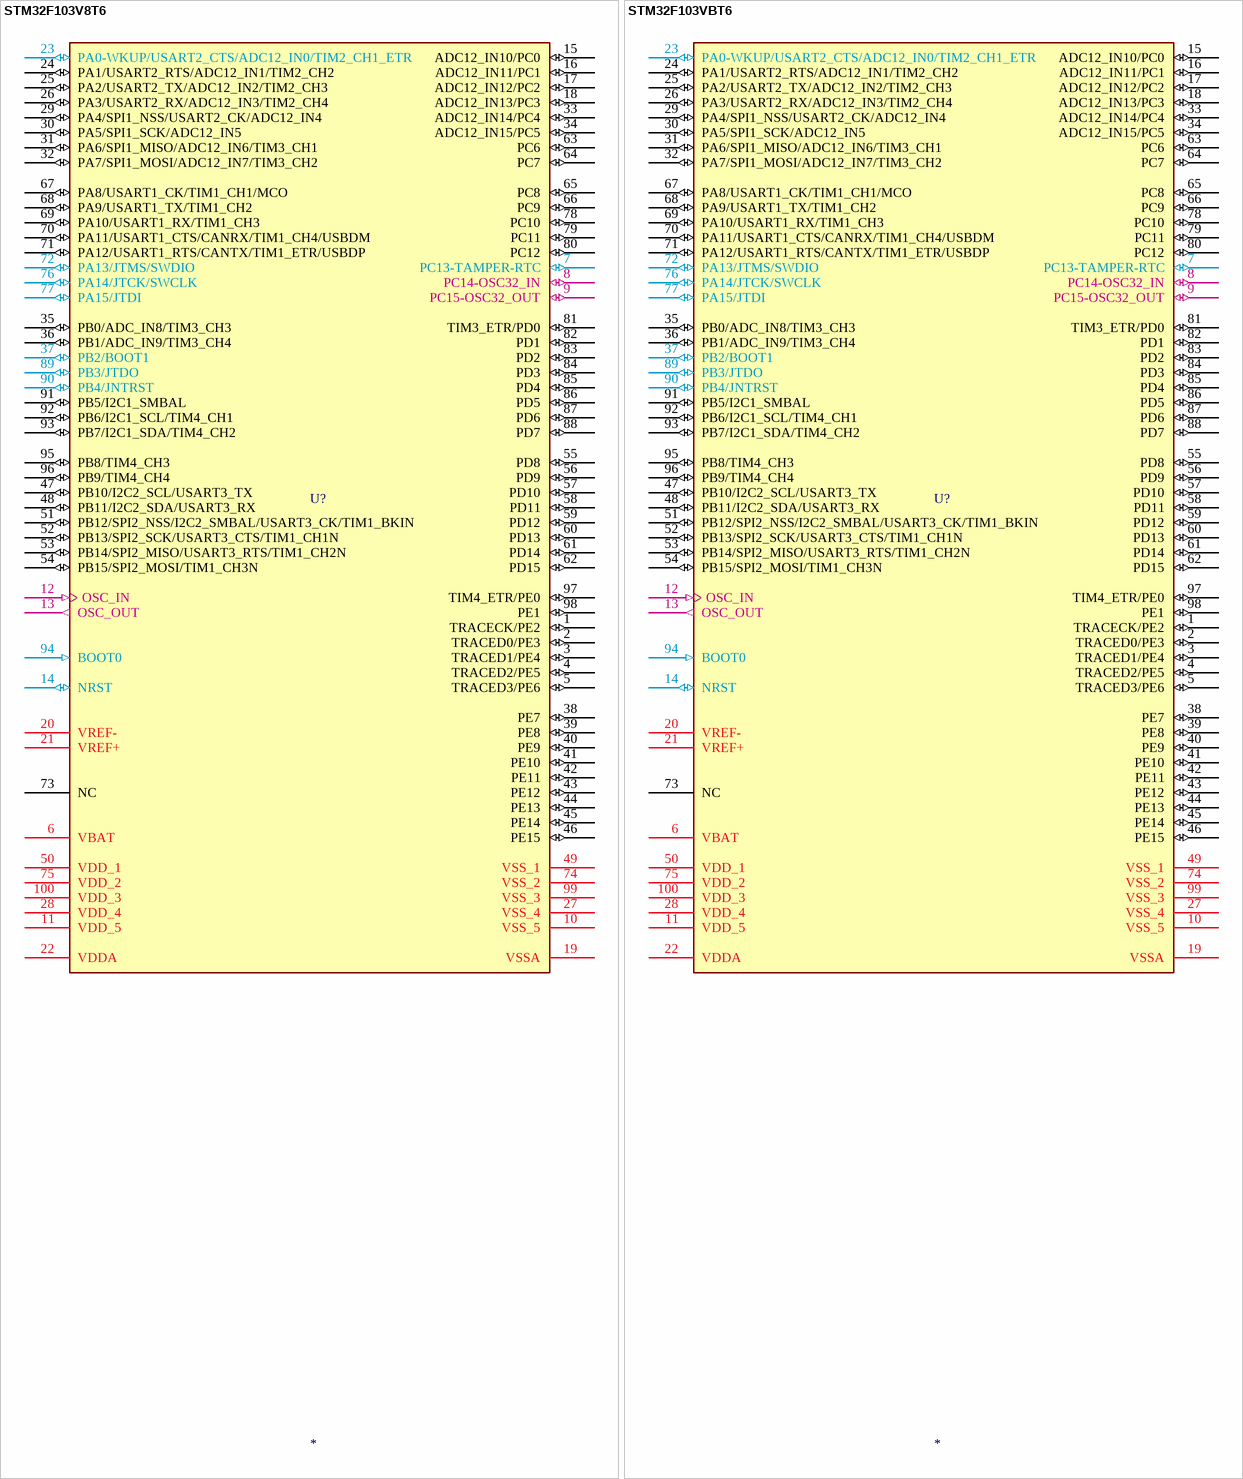
[diagram p4: symbols STM32F103V8T6 to STM32F103VBT6]

## STM32F103V8T6
designator U?
STM32 ARM-based 32-bit MCU with 64 Kbytes Flash, 100-pin LQFP, Industrial Temperature; Published: *; DatasheetVersion: *; PackageVersion: *; PackageReference: *; Publisher: *; PackageDescription: *; ComponentLink1Description: *; ComponentLink1URL: *; ComponentLink2Description: *; ComponentLink2URL: *
footprint LQFP100
pins: 1 TRACECK/PE2 (io), 2 TRACED0/PE3 (io), 3 TRACED1/PE4 (io), 4 TRACED2/PE5 (io), 5 TRACED3/PE6 (io), 6 VBAT (power), 7 PC13-TAMPER-RTC (io), 8 PC14-OSC32_IN (io), 9 PC15-OSC32_OUT (io), 10 VSS_5 (power), 11 VDD_5 (power), 12 OSC_IN (in), 13 OSC_OUT (out), 14 NRST (io), 15 ADC12_IN10/PC0 (io), 16 ADC12_IN11/PC1 (io), 17 ADC12_IN12/PC2 (io), 18 ADC12_IN13/PC3 (io), 19 VSSA (power), 20 VREF- (power), 21 VREF+ (power), 22 VDDA (power), 23 PA0-WKUP/USART2_CTS/ADC12_IN0/TIM2_CH1_ETR (io), 24 PA1/USART2_RTS/ADC12_IN1/TIM2_CH2 (io), 25 PA2/USART2_TX/ADC12_IN2/TIM2_CH3 (io), 26 PA3/USART2_RX/ADC12_IN3/TIM2_CH4 (io), 27 VSS_4 (power), 28 VDD_4 (power), 29 PA4/SPI1_NSS/USART2_CK/ADC12_IN4 (io), 30 PA5/SPI1_SCK/ADC12_IN5 (io), 31 PA6/SPI1_MISO/ADC12_IN6/TIM3_CH1 (io), 32 PA7/SPI1_MOSI/ADC12_IN7/TIM3_CH2 (io), 33 ADC12_IN14/PC4 (io), 34 ADC12_IN15/PC5 (io), 35 PB0/ADC_IN8/TIM3_CH3 (io), 36 PB1/ADC_IN9/TIM3_CH4 (io), 37 PB2/BOOT1 (io), 38 PE7 (io), 39 PE8 (io), 40 PE9 (io), 41 PE10 (io), 42 PE11 (io), 43 PE12 (io), 44 PE13 (io), 45 PE14 (io), 46 PE15 (io), 47 PB10/I2C2_SCL/USART3_TX (io), 48 PB11/I2C2_SDA/USART3_RX (io), 49 VSS_1 (power), 50 VDD_1 (power), 51 PB12/SPI2_NSS/I2C2_SMBAL/USART3_CK/TIM1_BKIN (io), 52 PB13/SPI2_SCK/USART3_CTS/TIM1_CH1N (io), 53 PB14/SPI2_MISO/USART3_RTS/TIM1_CH2N (io), 54 PB15/SPI2_MOSI/TIM1_CH3N (io), 55 PD8 (io), 56 PD9 (io), 57 PD10 (io), 58 PD11 (io), 59 PD12 (io), 60 PD13 (io), 61 PD14 (io), 62 PD15 (io), 63 PC6 (io), 64 PC7 (io), 65 PC8 (io), 66 PC9 (io), 67 PA8/USART1_CK/TIM1_CH1/MCO (io), 68 PA9/USART1_TX/TIM1_CH2 (io), 69 PA10/USART1_RX/TIM1_CH3 (io), 70 PA11/USART1_CTS/CANRX/TIM1_CH4/USBDM (io), 71 PA12/USART1_RTS/CANTX/TIM1_ETR/USBDP (io), 72 PA13/JTMS/SWDIO (io), 73 NC (hiz), 74 VSS_2 (power), 75 VDD_2 (power), 76 PA14/JTCK/SWCLK (io), 77 PA15/JTDI (io), 78 PC10 (io), 79 PC11 (io), 80 PC12 (io), 81 TIM3_ETR/PD0 (io), 82 PD1 (io), 83 PD2 (io), 84 PD3 (io), 85 PD4 (io), 86 PD5 (io), 87 PD6 (io), 88 PD7 (io), 89 PB3/JTDO (io), 90 PB4/JNTRST (io), 91 PB5/I2C1_SMBAL (io), 92 PB6/I2C1_SCL/TIM4_CH1 (io), 93 PB7/I2C1_SDA/TIM4_CH2 (io), 94 BOOT0 (in), 95 PB8/TIM4_CH3 (io), 96 PB9/TIM4_CH4 (io), 97 TIM4_ETR/PE0 (io), 98 PE1 (io), 99 VSS_3 (power), 100 VDD_3 (power)
2 alternate drawings of the same symbol

## STM32F103VBT6
designator U?
STM32 ARM-based 32-bit MCU with 64 Kbytes Flash, 100-pin LQFP, Industrial Temperature; Published: *; DatasheetVersion: *; PackageVersion: *; PackageReference: *; Publisher: *; PackageDescription: *; ComponentLink1Description: *; ComponentLink1URL: *; ComponentLink2Description: *; ComponentLink2URL: *
footprint LQFP100
pins: 1 TRACECK/PE2 (io), 2 TRACED0/PE3 (io), 3 TRACED1/PE4 (io), 4 TRACED2/PE5 (io), 5 TRACED3/PE6 (io), 6 VBAT (power), 7 PC13-TAMPER-RTC (io), 8 PC14-OSC32_IN (io), 9 PC15-OSC32_OUT (io), 10 VSS_5 (power), 11 VDD_5 (power), 12 OSC_IN (in), 13 OSC_OUT (out), 14 NRST (io), 15 ADC12_IN10/PC0 (io), 16 ADC12_IN11/PC1 (io), 17 ADC12_IN12/PC2 (io), 18 ADC12_IN13/PC3 (io), 19 VSSA (power), 20 VREF- (power), 21 VREF+ (power), 22 VDDA (power), 23 PA0-WKUP/USART2_CTS/ADC12_IN0/TIM2_CH1_ETR (io), 24 PA1/USART2_RTS/ADC12_IN1/TIM2_CH2 (io), 25 PA2/USART2_TX/ADC12_IN2/TIM2_CH3 (io), 26 PA3/USART2_RX/ADC12_IN3/TIM2_CH4 (io), 27 VSS_4 (power), 28 VDD_4 (power), 29 PA4/SPI1_NSS/USART2_CK/ADC12_IN4 (io), 30 PA5/SPI1_SCK/ADC12_IN5 (io), 31 PA6/SPI1_MISO/ADC12_IN6/TIM3_CH1 (io), 32 PA7/SPI1_MOSI/ADC12_IN7/TIM3_CH2 (io), 33 ADC12_IN14/PC4 (io), 34 ADC12_IN15/PC5 (io), 35 PB0/ADC_IN8/TIM3_CH3 (io), 36 PB1/ADC_IN9/TIM3_CH4 (io), 37 PB2/BOOT1 (io), 38 PE7 (io), 39 PE8 (io), 40 PE9 (io), 41 PE10 (io), 42 PE11 (io), 43 PE12 (io), 44 PE13 (io), 45 PE14 (io), 46 PE15 (io), 47 PB10/I2C2_SCL/USART3_TX (io), 48 PB11/I2C2_SDA/USART3_RX (io), 49 VSS_1 (power), 50 VDD_1 (power), 51 PB12/SPI2_NSS/I2C2_SMBAL/USART3_CK/TIM1_BKIN (io), 52 PB13/SPI2_SCK/USART3_CTS/TIM1_CH1N (io), 53 PB14/SPI2_MISO/USART3_RTS/TIM1_CH2N (io), 54 PB15/SPI2_MOSI/TIM1_CH3N (io), 55 PD8 (io), 56 PD9 (io), 57 PD10 (io), 58 PD11 (io), 59 PD12 (io), 60 PD13 (io), 61 PD14 (io), 62 PD15 (io), 63 PC6 (io), 64 PC7 (io), 65 PC8 (io), 66 PC9 (io), 67 PA8/USART1_CK/TIM1_CH1/MCO (io), 68 PA9/USART1_TX/TIM1_CH2 (io), 69 PA10/USART1_RX/TIM1_CH3 (io), 70 PA11/USART1_CTS/CANRX/TIM1_CH4/USBDM (io), 71 PA12/USART1_RTS/CANTX/TIM1_ETR/USBDP (io), 72 PA13/JTMS/SWDIO (io), 73 NC (hiz), 74 VSS_2 (power), 75 VDD_2 (power), 76 PA14/JTCK/SWCLK (io), 77 PA15/JTDI (io), 78 PC10 (io), 79 PC11 (io), 80 PC12 (io), 81 TIM3_ETR/PD0 (io), 82 PD1 (io), 83 PD2 (io), 84 PD3 (io), 85 PD4 (io), 86 PD5 (io), 87 PD6 (io), 88 PD7 (io), 89 PB3/JTDO (io), 90 PB4/JNTRST (io), 91 PB5/I2C1_SMBAL (io), 92 PB6/I2C1_SCL/TIM4_CH1 (io), 93 PB7/I2C1_SDA/TIM4_CH2 (io), 94 BOOT0 (in), 95 PB8/TIM4_CH3 (io), 96 PB9/TIM4_CH4 (io), 97 TIM4_ETR/PE0 (io), 98 PE1 (io), 99 VSS_3 (power), 100 VDD_3 (power)
2 alternate drawings of the same symbol

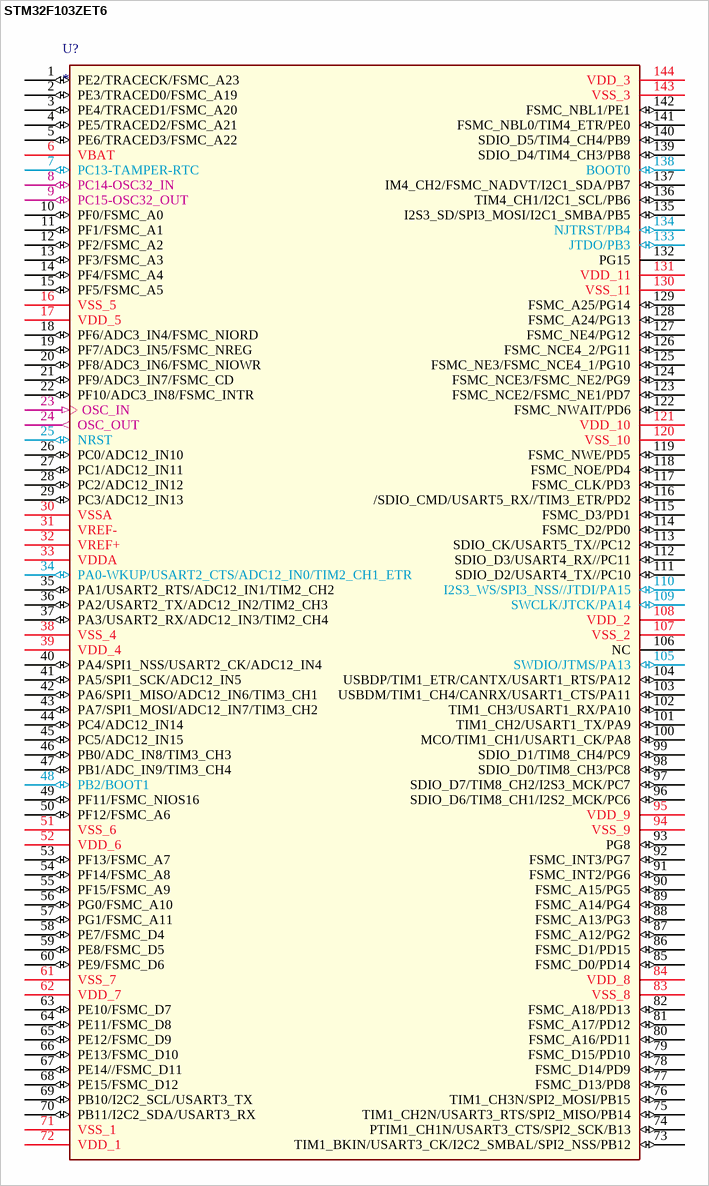
[diagram p5: symbol STM32F103ZET6]

## STM32F103ZET6
designator U?
STM32 ARM-based 32-bit MCU with 512Kbytes Flash, 144pin LQFP, Industrial Temperature
footprint LQFP144 (144-Pin Thin Quad Flat Pack 0.5 mm Pitch, IPC Low Density)
pins: 1 PE2/TRACECK/FSMC_A23 (io), 2 PE3/TRACED0/FSMC_A19 (io), 3 PE4/TRACED1/FSMC_A20 (io), 4 PE5/TRACED2/FSMC_A21 (io), 5 PE6/TRACED3/FSMC_A22 (io), 6 VBAT (power), 7 PC13-TAMPER-RTC (io), 8 PC14-OSC32_IN (io), 9 PC15-OSC32_OUT (io), 10 PF0/FSMC_A0 (io), 11 PF1/FSMC_A1 (io), 12 PF2/FSMC_A2 (io), 13 PF3/FSMC_A3 (io), 14 PF4/FSMC_A4 (io), 15 PF5/FSMC_A5 (io), 16 VSS_5 (power), 17 VDD_5 (power), 18 PF6/ADC3_IN4/FSMC_NIORD (io), 19 PF7/ADC3_IN5/FSMC_NREG (io), 20 PF8/ADC3_IN6/FSMC_NIOWR (io), 21 PF9/ADC3_IN7/FSMC_CD (io), 22 PF10/ADC3_IN8/FSMC_INTR (io), 23 OSC_IN (in), 24 OSC_OUT (out), 25 NRST (io), 26 PC0/ADC12_IN10 (io), 27 PC1/ADC12_IN11 (io), 28 PC2/ADC12_IN12 (io), 29 PC3/ADC12_IN13 (io), 30 VSSA (power), 31 VREF- (power), 32 VREF+ (power), 33 VDDA (power), 34 PA0-WKUP/USART2_CTS/ADC12_IN0/TIM2_CH1_ETR (io), 35 PA1/USART2_RTS/ADC12_IN1/TIM2_CH2 (io), 36 PA2/USART2_TX/ADC12_IN2/TIM2_CH3 (io), 37 PA3/USART2_RX/ADC12_IN3/TIM2_CH4 (io), 38 VSS_4 (power), 39 VDD_4 (power), 40 PA4/SPI1_NSS/USART2_CK/ADC12_IN4 (io), 41 PA5/SPI1_SCK/ADC12_IN5 (io), 42 PA6/SPI1_MISO/ADC12_IN6/TIM3_CH1 (io), 43 PA7/SPI1_MOSI/ADC12_IN7/TIM3_CH2 (io), 44 PC4/ADC12_IN14 (io), 45 PC5/ADC12_IN15 (io), 46 PB0/ADC_IN8/TIM3_CH3 (io), 47 PB1/ADC_IN9/TIM3_CH4 (io), 48 PB2/BOOT1 (io), 49 PF11/FSMC_NIOS16 (io), 50 PF12/FSMC_A6 (io), 51 VSS_6 (power), 52 VDD_6 (power), 53 PF13/FSMC_A7 (io), 54 PF14/FSMC_A8 (io), 55 PF15/FSMC_A9 (io), 56 PG0/FSMC_A10 (io), 57 PG1/FSMC_A11 (io), 58 PE7/FSMC_D4 (io), 59 PE8/FSMC_D5 (io), 60 PE9/FSMC_D6 (io), 61 VSS_7 (power), 62 VDD_7 (power), 63 PE10/FSMC_D7 (io), 64 PE11/FSMC_D8 (io), 65 PE12/FSMC_D9 (io), 66 PE13/FSMC_D10 (io), 67 PE14//FSMC_D11 (io), 68 PE15/FSMC_D12 (io), 69 PB10/I2C2_SCL/USART3_TX (io), 70 PB11/I2C2_SDA/USART3_RX (io), 71 VSS_1 (power), 72 VDD_1 (power), 73 TIM1_BKIN/USART3_CK/I2C2_SMBAL/SPI2_NSS/PB12 (io), 74 PTIM1_CH1N/USART3_CTS/SPI2_SCK/B13 (io), 75 TIM1_CH2N/USART3_RTS/SPI2_MISO/PB14 (io), 76 TIM1_CH3N/SPI2_MOSI/PB15 (io), 77 FSMC_D13/PD8 (io), 78 FSMC_D14/PD9 (io), 79 FSMC_D15/PD10 (io), 80 FSMC_A16/PD11 (io), 81 FSMC_A17/PD12 (io), 82 FSMC_A18/PD13 (io), 83 VSS_8 (power), 84 VDD_8 (power), 85 FSMC_D0/PD14 (io), 86 FSMC_D1/PD15 (io), 87 FSMC_A12/PG2 (io), 88 FSMC_A13/PG3 (io), 89 FSMC_A14/PG4 (io), 90 FSMC_A15/PG5 (io), 91 FSMC_INT2/PG6 (io), 92 FSMC_INT3/PG7 (io), 93 PG8 (io), 94 VSS_9 (power), 95 VDD_9 (power), 96 SDIO_D6/TIM8_CH1/I2S2_MCK/PC6 (io), 97 SDIO_D7/TIM8_CH2/I2S3_MCK/PC7 (io), 98 SDIO_D0/TIM8_CH3/PC8 (io), 99 SDIO_D1/TIM8_CH4/PC9 (io), 100 MCO/TIM1_CH1/USART1_CK/PA8 (io), 101 TIM1_CH2/USART1_TX/PA9 (io), 102 TIM1_CH3/USART1_RX/PA10 (io), 103 USBDM/TIM1_CH4/CANRX/USART1_CTS/PA11 (io), 104 USBDP/TIM1_ETR/CANTX/USART1_RTS/PA12 (io), 105 SWDIO/JTMS/PA13 (io), 106 NC (hiz), 107 VSS_2 (power), 108 VDD_2 (power), 109 SWCLK/JTCK/PA14 (io), 110 I2S3_WS/SPI3_NSS//JTDI/PA15 (io), 111 SDIO_D2/USART4_TX//PC10 (io), 112 SDIO_D3/USART4_RX//PC11 (io), 113 SDIO_CK/USART5_TX//PC12 (io), 114 FSMC_D2/PD0 (io), 115 FSMC_D3/PD1 (io), 116 /SDIO_CMD/USART5_RX//TIM3_ETR/PD2 (io), 117 FSMC_CLK/PD3 (io), 118 FSMC_NOE/PD4 (io), 119 FSMC_NWE/PD5 (io), 120 VSS_10 (power), 121 VDD_10 (power), 122 FSMC_NWAIT/PD6 (io), 123 FSMC_NCE2/FSMC_NE1/PD7 (io), 124 FSMC_NCE3/FSMC_NE2/PG9 (io), 125 FSMC_NE3/FSMC_NCE4_1/PG10 (io), 126 FSMC_NCE4_2/PG11 (io), 127 FSMC_NE4/PG12 (io), 128 FSMC_A24/PG13 (io), 129 FSMC_A25/PG14 (io), 130 VSS_11 (power), 131 VDD_11 (power), 132 PG15, 133 JTDO/PB3 (io), 134 NJTRST/PB4 (io), 135 I2S3_SD/SPI3_MOSI/I2C1_SMBA/PB5 (io), 136 TIM4_CH1/I2C1_SCL/PB6 (io), 137 IM4_CH2/FSMC_NADVT/I2C1_SDA/PB7 (io), 138 BOOT0 (io), 139 SDIO_D4/TIM4_CH3/PB8 (io), 140 SDIO_D5/TIM4_CH4/PB9 (io), 141 FSMC_NBL0/TIM4_ETR/PE0 (io), 142 FSMC_NBL1/PE1 (io), 143 VSS_3 (power), 144 VDD_3 (power)